# Altium footprint library myComponents.PcbLib: 43 footprints (part 3 of 3)
Each footprint in its own frame and in the unit in brackets; x right, y up, seen from the top. Pads: shape width x height; smd on the part's side, far side on the other; paste and mask are expansions set on the pad; w line width, h text height; cw(c..) or ccw(c..) is an arc to the next point about the centre after c.
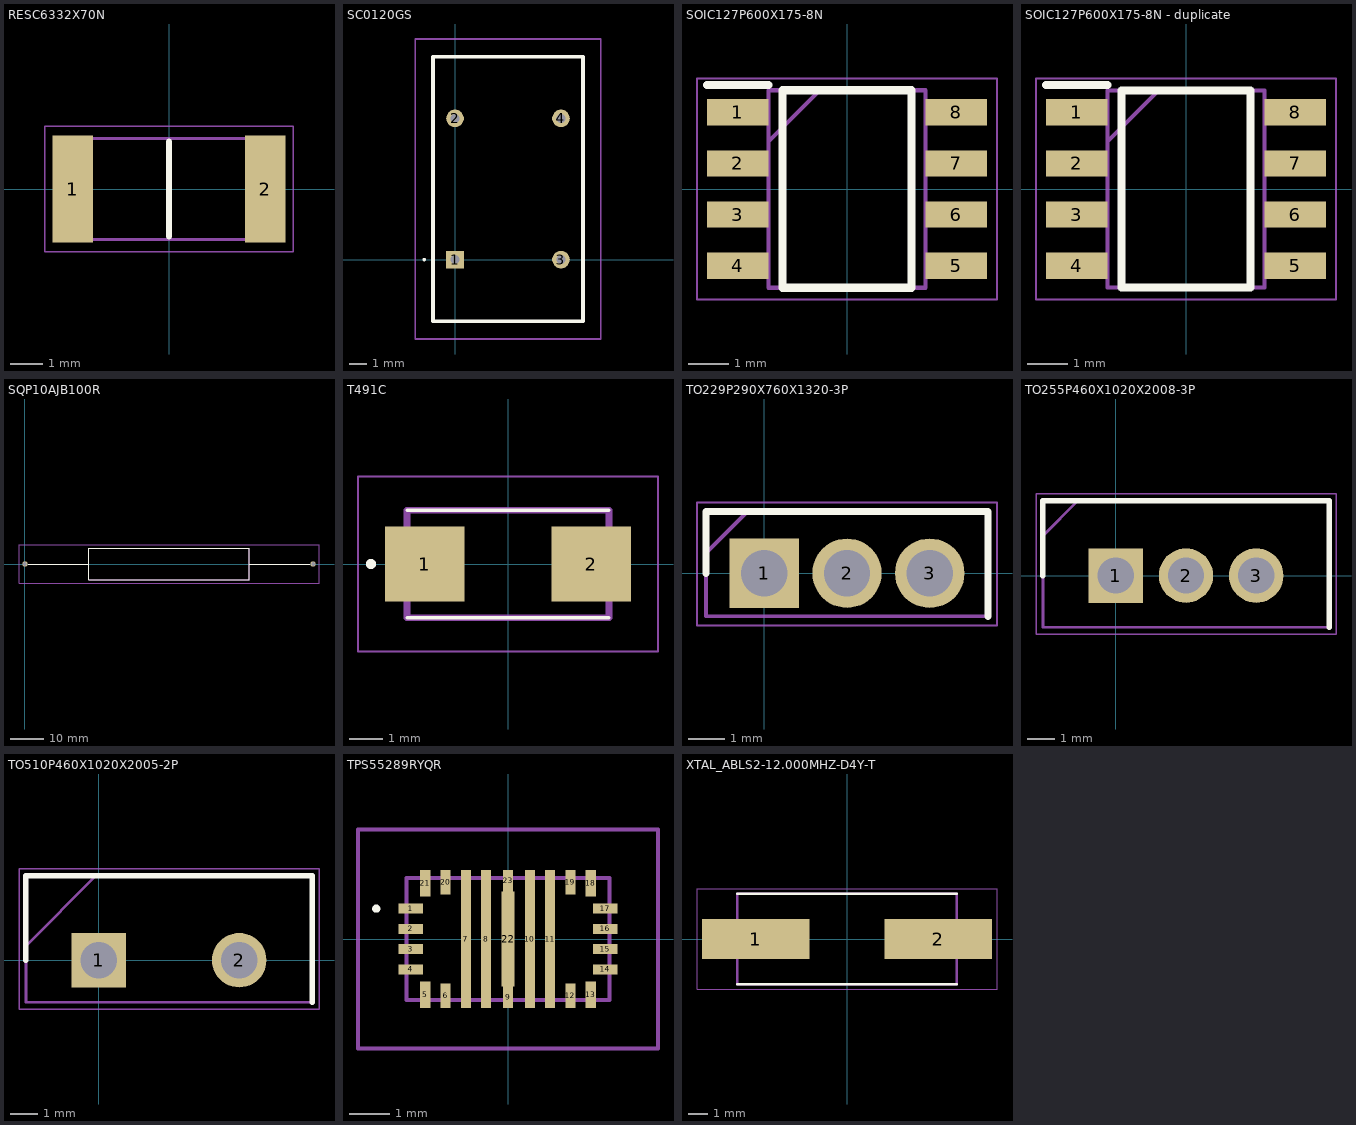
[diagram p2: the footprints below, top view; thin cyan lines are the x and y axes]

## RESC6332X70N [mm]
pads (2):
  rect 1.25x3.35 smd: 1(-3,0) 2(3,0)
Top Overlay:
  lines w0.2: 0,-1.475 0,1.475
Mechanical 13:
  lines w0.1: -3.15,-1.575 -3.15,1.575 3.15,1.575 3.15,-1.575 -3.15,-1.575
Mechanical 15:
  lines w0.05: -3.875,-1.95 -3.875,1.95 3.875,1.95 3.875,-1.95 -3.875,-1.95
3D body "CRCW251210R0FKEG.stp": height 0.7, standoff 0, extent -3.15,-1.575 3.15,1.575

## SC0120GS [mm]
pads (4):
  rect 1x1 hole 0.5: 1(0,0)
  round 1 hole 0.5: 2(0,8) 3(6,0) 4(6,8)
Top Overlay:
  lines w0.1: -1.8,0 cw(c-1.75,0) -1.7,0 cw(c-1.75,0) -1.8,0
  lines w0.2: -1.25,-3.5 -1.25,11.5 7.25,11.5 7.25,-3.5 -1.25,-3.5
Mechanical 13:
  lines w0.1: -1.25,-3.5 -1.25,11.5 7.25,11.5 7.25,-3.5 -1.25,-3.5
Mechanical 15:
  lines w0.1: -2.25,-4.5 -2.25,12.5 8.25,12.5 8.25,-4.5 -2.25,-4.5
3D body "SC-01-20GS.stp": height 4.25, standoff -4.25, extent -7.5,-21.1 7.5,7.289

## SOIC127P600X175-8N [mm]
pads (8):
  rect 1.528x0.65 smd: 1(-2.711,1.905) 2(-2.711,0.635) 3(-2.711,-0.635) 4(-2.711,-1.905) 5(2.711,-1.905) 6(2.711,-0.635) 7(2.711,0.635) 8(2.711,1.905)
Top Overlay:
  lines w0.2: -3.475,2.58 -1.948,2.58 ; -1.598,-2.452 1.598,-2.452 1.598,2.452 -1.598,2.452 -1.598,-2.452
Mechanical 15:
  lines w0.1: -1.948,1.182 -0.678,2.452 ; -1.948,-2.452 1.948,-2.452 1.948,2.452 -1.948,2.452 -1.948,-2.452
Mechanical 20:
  lines w0.05: -3.725,-2.75 3.725,-2.75 3.725,2.75 -3.725,2.75 -3.725,-2.75

## SOIC127P600X175-8N - duplicate [mm]
pads (8):
  rect 1.525x0.65 smd: 1(-2.712,1.905) 2(-2.712,0.635) 3(-2.712,-0.635) 4(-2.712,-1.905) 5(2.712,-1.905) 6(2.712,-0.635) 7(2.712,0.635) 8(2.712,1.905)
Top Overlay:
  lines w0.2: -3.475,2.58 -1.95,2.58 ; -1.6,-2.45 -1.6,2.45 1.6,2.45 1.6,-2.45 -1.6,-2.45
Mechanical 13:
  lines w0.1: -1.95,1.18 -0.68,2.45 ; -1.95,-2.45 -1.95,2.45 1.95,2.45 1.95,-2.45 -1.95,-2.45
Mechanical 15:
  lines w0.05: -3.725,-2.75 -3.725,2.75 3.725,2.75 3.725,-2.75 -3.725,-2.75
3D body "NE555DR.stp": height 1.75, standoff 0, extent -3,-2.45 3,2.45

## SQP10AJB100R [mm]
pads (2):
  round 1.575 hole 1.05: 1(0,0) 2(86,0)
Top Overlay:
  lines w0.1: 1,0 19,0 ; 67,0 85,0 ; 19,-4.75 19,4.75 67,4.75 67,-4.75 19,-4.75
Mechanical 13:
  lines w0.2: 1,0 19,0 ; 67,0 85,0 ; 19,-4.75 19,4.75 67,4.75 67,-4.75 19,-4.75
Mechanical 15:
  lines w0.1: -1.788,-5.75 -1.788,5.75 87.787,5.75 87.787,-5.75 -1.788,-5.75

## T491C [mm]
pads (2):
  rect 2.37x2.23 smd: 1(-2.47,0) 2(2.47,0)
Top Overlay:
  circle w0.2: c-4.07,0 r0.05
  lines w0.1: -3,-1.6 3,-1.6 ; -3,1.6 3,1.6
Mechanical 13:
  lines w0.2: -3,-1.6 3,-1.6 3,1.6 -3,1.6 -3,-1.6
Mechanical 15:
  lines w0.05: -4.455,-2.6 4.455,-2.6 4.455,2.6 -4.455,2.6 -4.455,-2.6
3D body "T491C226K025AT.stp": height 0, standoff -3.5, extent -0.13,0 6.17,2.805

## TO229P290X760X1320-3P [mm]
pads (3):
  rect 1.92x1.92 hole 1.28: 1(0,0)
  round 1.92 hole 1.28: 2(2.29,0) 3(4.58,0)
Top Overlay:
  lines w0.2: -1.61,0 -1.61,1.705 6.19,1.705 6.19,-1.195
Mechanical 13:
  lines w0.1: -1.61,0.56 -0.465,1.705 ; -1.61,-1.195 6.19,-1.195 6.19,1.705 -1.61,1.705 -1.61,-1.195
Mechanical 15:
  lines w0.05: -1.86,-1.445 6.44,-1.445 6.44,1.955 -1.86,1.955 -1.86,-1.445
3D body "2SB772.stp": height 13.2, standoff -21.55, extent -1.51,-1.195 6.09,1.705

## TO255P460X1020X2008-3P [mm]
pads (3):
  rect 1.98x1.98 hole 1.32: 1(0,0)
  round 1.98 hole 1.32: 2(2.55,0) 3(5.1,0)
Top Overlay:
  lines w0.2: -2.65,0 -2.65,2.72 7.75,2.72 7.75,-1.88
Mechanical 13:
  lines w0.1: -2.65,1.445 -1.375,2.72 ; -2.65,-1.88 -2.65,2.72 7.75,2.72 7.75,-1.88 -2.65,-1.88
Mechanical 15:
  lines w0.05: -2.9,-2.13 -2.9,2.97 8,2.97 8,-2.13 -2.9,-2.13
3D body "STP160N75F3.stp": height 21.46, standoff -14.6, extent -2.12,-1.301 13.18,3.2

## TO510P460X1020X2005-2P [mm]
pads (2):
  rect 1.98x1.98 hole 1.32: 1(0,0)
  round 1.98 hole 1.32: 2(5.1,0)
Top Overlay:
  lines w0.2: -2.65,0 -2.65,3.07 7.75,3.07 7.75,-1.53
Mechanical 13:
  lines w0.1: -2.65,0.52 -0.1,3.07 ; -2.65,-1.53 -2.65,3.07 7.75,3.07 7.75,-1.53 -2.65,-1.53
Mechanical 15:
  lines w0.05: -2.9,-1.78 -2.9,3.32 8,3.32 8,-1.78 -2.9,-1.78
3D body "STTH8R06D.stp": height 20.05, standoff -18.3, extent -2.55,-1.53 7.65,3.07

## TPS55289RYQR [mm]
pads (23):
  rect 0.6x0.25 smd: 1(-2.4,0.75) 2(-2.4,0.25) 3(-2.4,-0.25) 4(-2.4,-0.75) 14(2.4,-0.75) 15(2.4,-0.25) 16(2.4,0.25) 17(2.4,0.75)
  rect 0.25x0.65 smd: 5(-2.04,-1.375) 13(2.04,-1.375) 18(2.04,1.375) 21(-2.04,1.375)
  rect 0.25x0.6 smd: 6(-1.54,-1.4) 12(1.54,-1.4) 19(1.54,1.4) 20(-1.54,1.4)
  rect 0.25x3.4 smd: 7(-1.04,0) 8(-0.54,0) 10(0.54,0) 11(1.04,0)
  rect 0.25x0.525 smd: 9(0,-1.438) 23(0,1.438)
  rect 0.33x2.35 smd: 22(0,0)
Top Overlay:
  lines w0.1: -3.3,0.75 cw(c-3.25,0.75) -3.2,0.75 cw(c-3.25,0.75) -3.3,0.75
Mechanical 13:
  lines w0.1: -2.5,-1.5 -2.5,1.5 2.5,1.5 2.5,-1.5 -2.5,-1.5
Mechanical 15:
  lines w0.1: -3.7,-2.7 -3.7,2.7 3.7,2.7 3.7,-2.7 -3.7,-2.7
3D body "TPS55289RYQR.stp": height 1, standoff 0, extent -2.5,-1.5 2.5,1.5

## XTAL_ABLS2-12.000MHZ-D4Y-T [mm]
height 3.3
pads (2):
  rect 5.6x2.1 smd: 1(-4.75,0) 2(4.75,0)
Top Overlay:
  lines w0.127: -5.7,-2.35 5.7,-2.35 ; -5.7,2.35 5.7,2.35
Mechanical 13:
  lines w0.127: -5.7,-2.35 -5.7,2.35 5.7,2.35 5.7,-2.35 -5.7,-2.35
Mechanical 15:
  lines w0.05: -7.8,-2.6 -7.8,2.6 7.8,2.6 7.8,-2.6 -7.8,-2.6
3D body "step_temp.STEP": height 3.16, standoff -0.1, extent -6.35,-2.349 6.35,2.349